# Altium footprint library ResCap.PcbLib: 8 footprints
Each footprint in its own frame and in the unit in brackets; x right, y up, seen from the top. Pads: shape width x height; smd on the part's side, far side on the other; paste and mask are expansions set on the pad; w line width, h text height; cw(c..) or ccw(c..) is an arc to the next point about the centre after c.
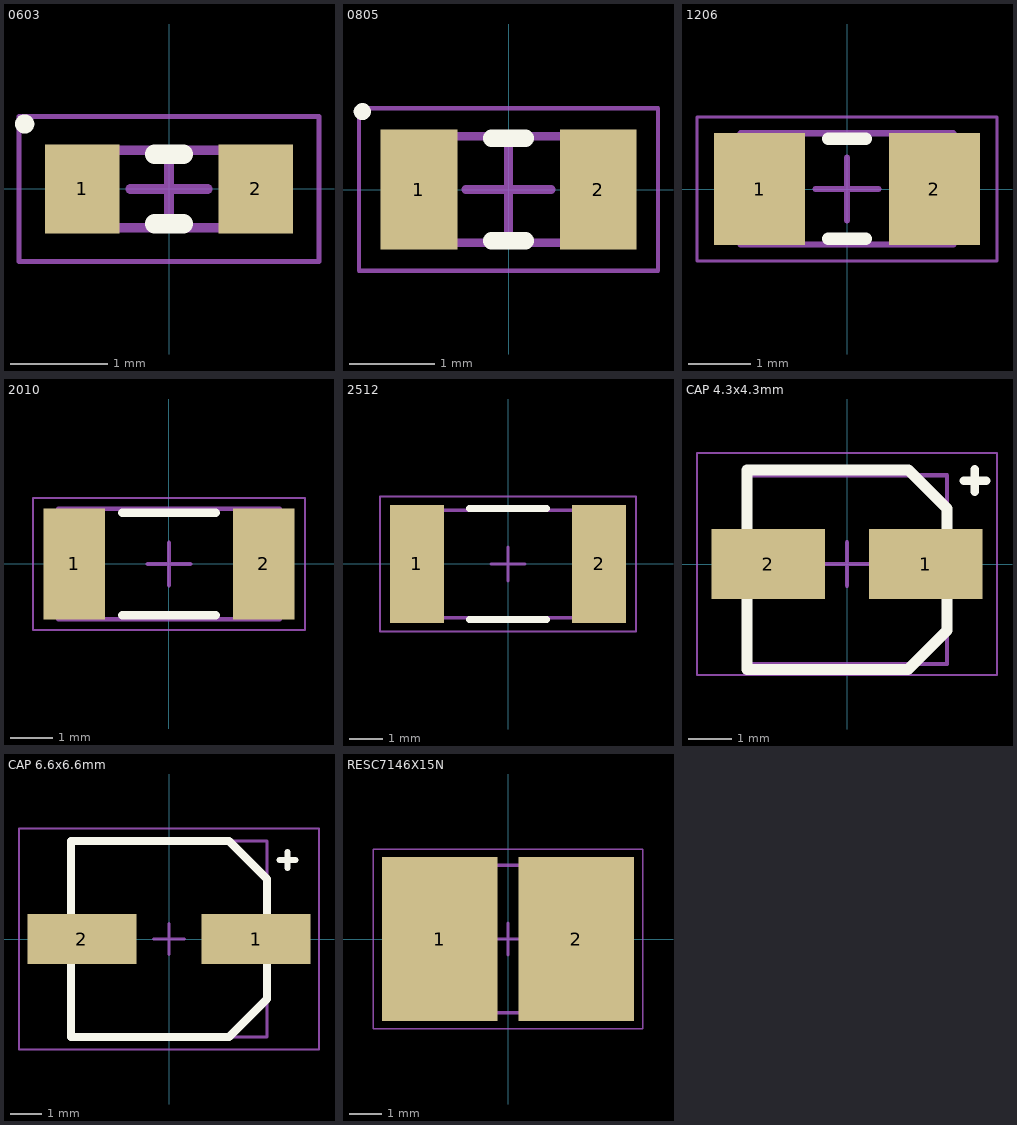
[diagram p0: the footprints below, top view; thin cyan lines are the x and y axes]

## 0603 [mm] "Chip 2-Leads, Body 1,60x0,80mm, IPC Medium Density"
height 1
pads (2):
  rect 0.77x0.92 smd: 1(-0.895,0) 2(0.895,0)
Top Overlay:
  circle w0.1: c-1.492,0.672 r0.05
  lines w0.2: -0.15,-0.36 0.15,-0.36 ; -0.15,0.36 0.15,0.36
Mechanical 13:
  lines w0.1: -0.8,-0.4 0.8,-0.4 0.8,0.4 -0.8,0.4 -0.8,-0.4
Mechanical 15:
  lines w0.05: -1.55,-0.75 1.55,-0.75 1.55,0.75 -1.55,0.75 -1.55,-0.75
  lines w0.1: -0.4,0 0.4,0 ; 0,-0.4 0,0.4
3D body: height 1, standoff 0, extent 0.5,-0.4 0.8,0.4
3D body: height 1, standoff 0, extent -0.8,-0.4 -0.5,0.4
3D body: height 1, standoff 0, extent -0.5,-0.4 0.5,0.4

## 0805 [mm] "Chip Capacitor, 2-Leads, Body 2,00x1,25mm, IPC Medium Density"
height 0.8
pads (2):
  rect 0.9x1.4 smd: 1(-1.05,0) 2(1.05,0)
Top Overlay:
  circle w0.1: c-1.712,0.912 r0.05
  lines w0.2: -0.2,-0.6 0.2,-0.6 ; -0.2,0.6 0.2,0.6
Mechanical 13:
  lines w0.1: -1,-0.625 -1,0.625 1,0.625 1,-0.625 -1,-0.625
Mechanical 15:
  lines w0.05: -1.75,-0.95 -1.75,0.95 1.75,0.95 1.75,-0.95 -1.75,-0.95
  lines w0.1: -0.5,0 0.5,0 ; 0,-0.5 0,0.5
3D body: height 0.8, standoff 0, extent -0.6,-0.625 0.6,0.625
3D body: height 0.8, standoff 0, extent -1,-0.625 -0.6,0.625
3D body: height 0.8, standoff 0, extent 0.6,-0.625 1,0.625

## 1206 [mm] "Chip Resistor, 2-Leads, Body 3,20x1,58mm, IPC Medium Density"
height 0.85
pads (2):
  rect 1.45x1.8 smd: 1(-1.4,0) 2(1.4,0)
Top Overlay:
  lines w0.2: -0.3,-0.8 0.3,-0.8 ; -0.3,0.8 0.3,0.8
Mechanical 13:
  lines w0.1: -1.7,-0.89 -1.7,0.89 1.7,0.89 1.7,-0.89 -1.7,-0.89
Mechanical 15:
  lines w0.05: -2.4,-1.15 -2.4,1.15 2.4,1.15 2.4,-1.15 -2.4,-1.15
  lines w0.1: -0.5,0 0.5,0 ; 0,-0.5 0,0.5
3D body: height 0.85, standoff 0, extent -1.06,-0.89 1.06,0.89
3D body: height 0.85, standoff 0, extent -1.7,-0.89 -1.06,0.89
3D body: height 0.85, standoff 0, extent 1.06,-0.89 1.7,0.89

## 2010 [mm] "Chip Resistor, 2-Leads, Body 5,00x2,45mm, IPC Medium Density"
height 0.6
pads (2):
  rect 1.45x2.6 smd: 1(-2.225,0) 2(2.225,0)
Top Overlay:
  lines w0.2: -1.1,-1.2 1.1,-1.2 ; -1.1,1.2 1.1,1.2
Mechanical 13:
  lines w0.1: -2.6,-1.3 2.6,-1.3 2.6,1.3 -2.6,1.3 -2.6,-1.3
Mechanical 15:
  lines w0.05: -3.2,-1.55 3.2,-1.55 3.2,1.55 -3.2,1.55 -3.2,-1.55
  lines w0.1: -0.5,0 0.5,0 ; 0,-0.5 0,0.5
3D body: height 0.6, standoff 0, extent 2,-1.3 2.6,1.3
3D body: height 0.6, standoff 0, extent -2.6,-1.3 -2,1.3
3D body: height 0.6, standoff 0, extent -2,-1.3 2,1.3

## 2512 [mm] "Chip Resistor, 2-Leads, Body 6,30x3,20mm, IPC Medium Density"
height 0.6
pads (2):
  rect 1.6x3.5 smd: 1(-2.7,0) 2(2.7,0)
Top Overlay:
  lines w0.2: -1.15,-1.65 1.15,-1.65 ; -1.15,1.65 1.15,1.65
Mechanical 13:
  lines w0.1: -3.15,-1.6 3.15,-1.6 3.15,1.6 -3.15,1.6 -3.15,-1.6
Mechanical 15:
  lines w0.05: -3.8,-2 3.8,-2 3.8,2 -3.8,2 -3.8,-2
  lines w0.1: -0.5,0 0.5,0 ; 0,-0.5 0,0.5
3D body: height 0.6, standoff 0, extent 1.55,-1.6 3.15,1.6
3D body: height 0.6, standoff 0, extent -3.15,-1.6 -1.55,1.6
3D body: height 0.6, standoff 0, extent -1.55,-1.6 1.55,1.6

## CAP 4.3x4.3mm [mm] "Chip"
pads (2):
  rect 2.6x1.6 smd: 1(1.8,0) 2(-1.8,0)
Top Overlay:
  lines w0.2: 2.667,1.905 3.175,1.905 ; 2.921,1.651 2.921,2.159
  lines w0.254: -2.286,-2.413 1.397,-2.413 2.286,-1.524 2.286,1.27 1.406,2.15 -2.286,2.15 -2.286,-2.413
Mechanical 13:
  lines w0.1: -2.286,-2.286 2.286,-2.286 2.286,2.032 -2.286,2.032 -2.286,-2.286
Mechanical 15:
  lines w0.05: -3.429,-2.54 3.429,-2.54 3.429,2.54 -3.429,2.54 -3.429,-2.54
  lines w0.1: -0.5,0 0.5,0 ; 0,-0.5 0,0.5
3D body: height 0.85, standoff 0, extent 1.06,-0.89 1.7,0.89
3D body: height 0.85, standoff 0, extent -1.7,-0.89 -1.06,0.89
3D body: height 3.91, standoff 0, extent -2.286,-2.277 2.314,2.023

## CAP 6.6x6.6mm [mm] "Chip"
pads (2):
  rect 3.5x1.6 smd: 1(2.8,0) 2(-2.8,0)
Top Overlay:
  lines w0.2: 3.556,2.54 4.064,2.54 ; 3.81,2.286 3.81,2.794
  lines w0.254: -3.15,-3.15 1.93,-3.15 3.15,-1.93 3.15,1.93 1.93,3.15 -3.15,3.15 -3.15,-3.15
Mechanical 13:
  lines w0.1: -3.15,-3.15 -3.15,3.15 3.15,3.15 3.15,-3.15 -3.15,-3.15
Mechanical 15:
  lines w0.05: -4.826,-3.556 -4.826,3.556 4.826,3.556 4.826,-3.556 -4.826,-3.556
  lines w0.1: -0.5,0 0.5,0 ; 0,-0.5 0,0.5
3D body: height 7.7, standoff 0, extent -3.125,-3.145 3.15,3.143
3D body: height 0.85, standoff 0, extent -1.7,-0.89 -1.06,0.89
3D body: height 0.85, standoff 0, extent 1.06,-0.89 1.7,0.89

## RESC7146X15N [mm] "Chip Resistor, 2-Leads, Body 7,10x4,60mm, IPC Medium Density"
height 1.5
pads (2):
  rect 3.6x5.1 smd: 1(-2.125,0) 2(2.125,0)
Mechanical 13:
  lines w0.1: -3.55,-2.3 3.55,-2.3 3.55,2.3 -3.55,2.3 -3.55,-2.3
Mechanical 15:
  lines w0.05: -4.2,-2.8 4.2,-2.8 4.2,2.8 -4.2,2.8 -4.2,-2.8
  lines w0.1: -0.5,0 0.5,0 ; 0,-0.5 0,0.5
3D body: height 1.5, standoff 0, extent 0.37,-2.3 3.55,2.3
3D body: height 1.5, standoff 0, extent -3.55,-2.3 -0.37,2.3
3D body: height 1.5, standoff 0, extent -0.37,-2.3 0.37,2.3